# Altium integrated library Xilinx Virtex-II Pro FPGA.IntLib: 1045 symbols (part 3 of 8)
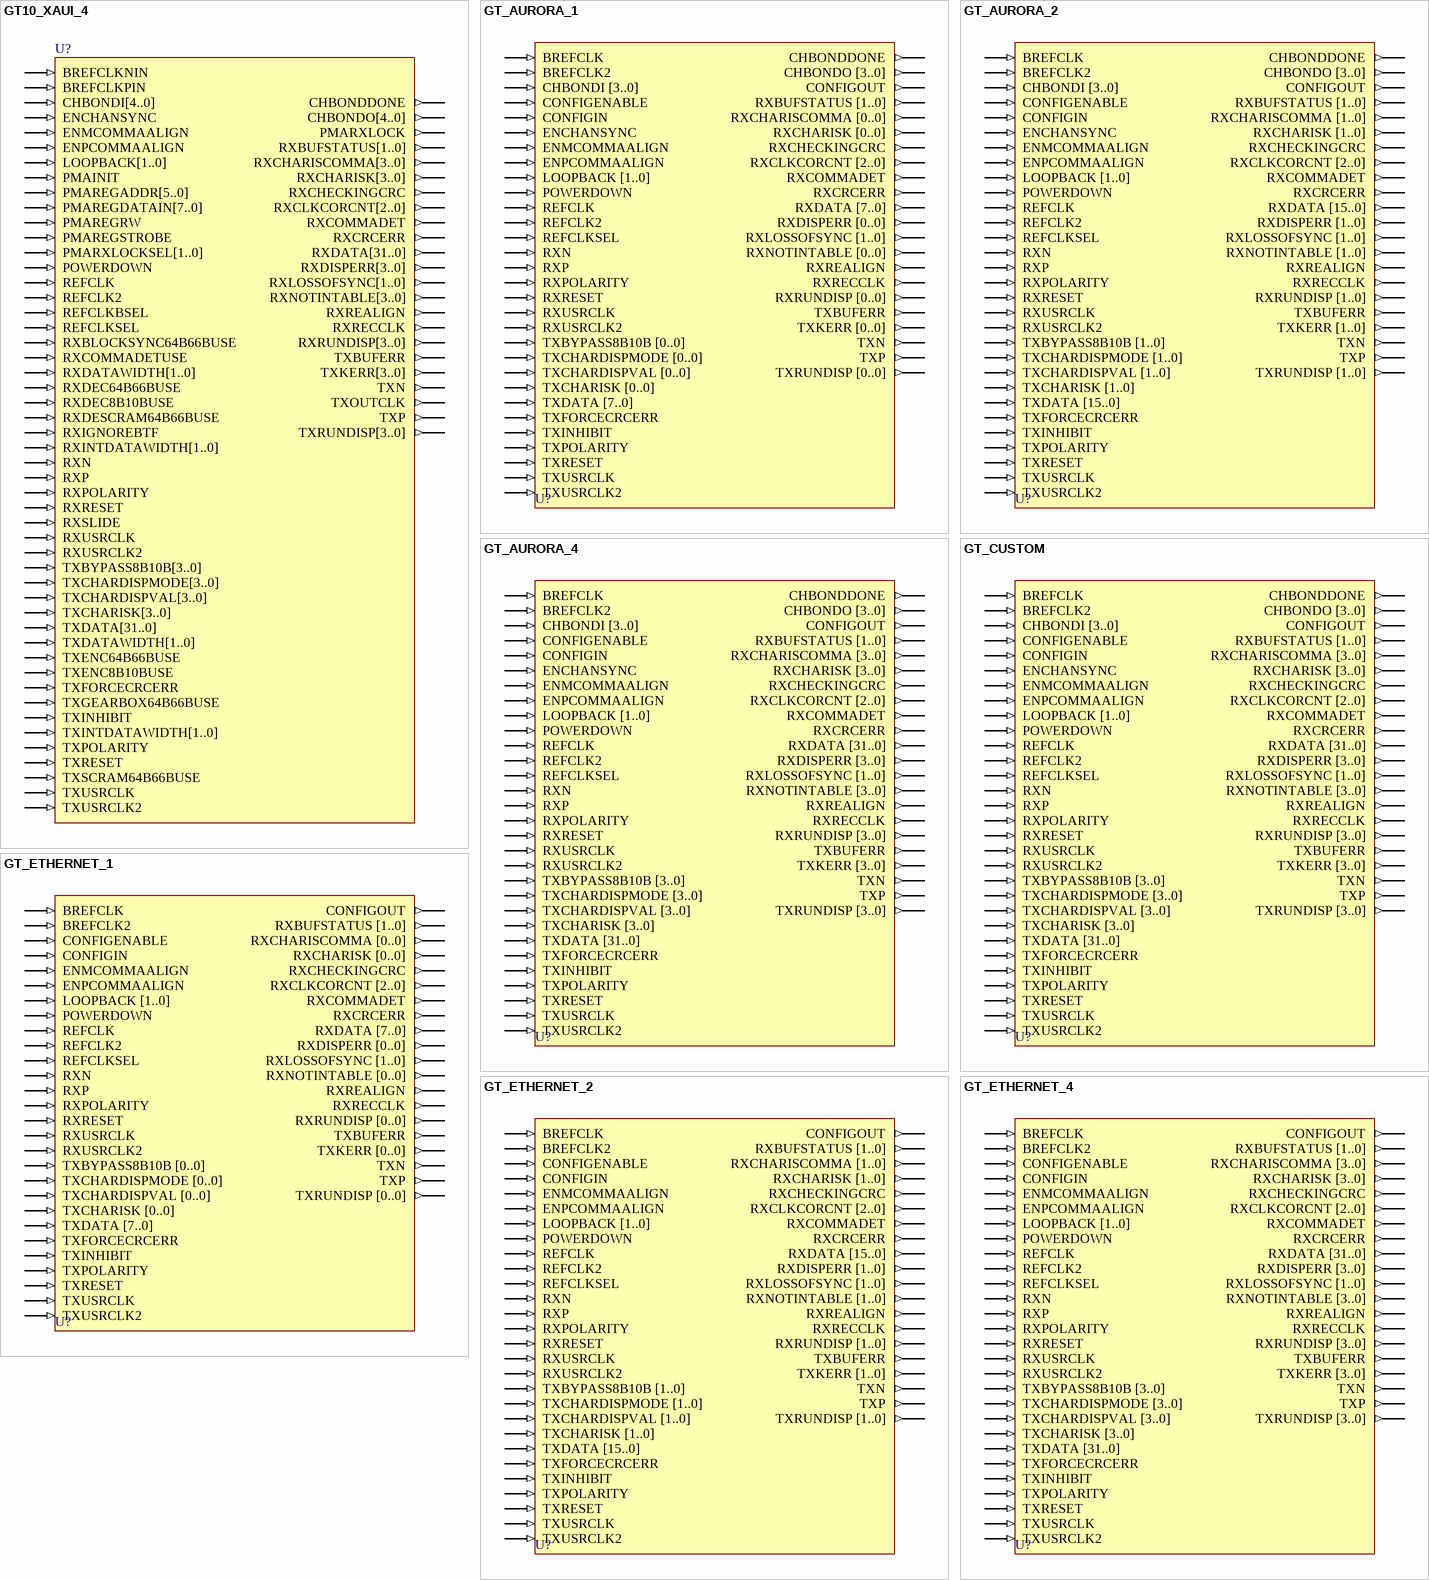
[diagram p37: symbols GT10_XAUI_4 to GT_ETHERNET_4]

## GT_ETHERNET_4
designator U?
Gigabit Transceiver for High-Speed I/O; FPGAVendor: Xilinx; Note: Supported for Virtex-II Pro but not for Virtex-II or Virtex-II Pro X.; Published: 15-Sep-2003; Publisher: Altium Limited; HelpURL: http://toolbox.xilinx.com/docsan/xilinx7/books/docs/lib/lib.pdf
pins: BREFCLK (in), BREFCLK2 (in), CONFIGENABLE (in), CONFIGIN (in), CONFIGOUT (out), ENMCOMMAALIGN (in), ENPCOMMAALIGN (in), LOOPBACK [1..0] (in), POWERDOWN (in), REFCLK (in), REFCLK2 (in), REFCLKSEL (in), RXBUFSTATUS [1..0] (out), RXCHARISCOMMA [3..0] (out), RXCHARISK [3..0] (out), RXCHECKINGCRC (out), RXCLKCORCNT [2..0] (out), RXCOMMADET (out), RXCRCERR (out), RXDATA [31..0] (out), RXDISPERR [3..0] (out), RXLOSSOFSYNC [1..0] (out), RXN (in), RXNOTINTABLE [3..0] (out), RXP (in), RXPOLARITY (in), RXREALIGN (out), RXRECCLK (out), RXRESET (in), RXRUNDISP [3..0] (out), RXUSRCLK (in), RXUSRCLK2 (in), TXBUFERR (out), TXBYPASS8B10B [3..0] (in), TXCHARDISPMODE [3..0] (in), TXCHARDISPVAL [3..0] (in), TXCHARISK [3..0] (in), TXDATA [31..0] (in), TXFORCECRCERR (in), TXINHIBIT (in), TXKERR [3..0] (out), TXN (out), TXP (out), TXPOLARITY (in), TXRESET (in), TXRUNDISP [3..0] (out), TXUSRCLK (in), TXUSRCLK2 (in)

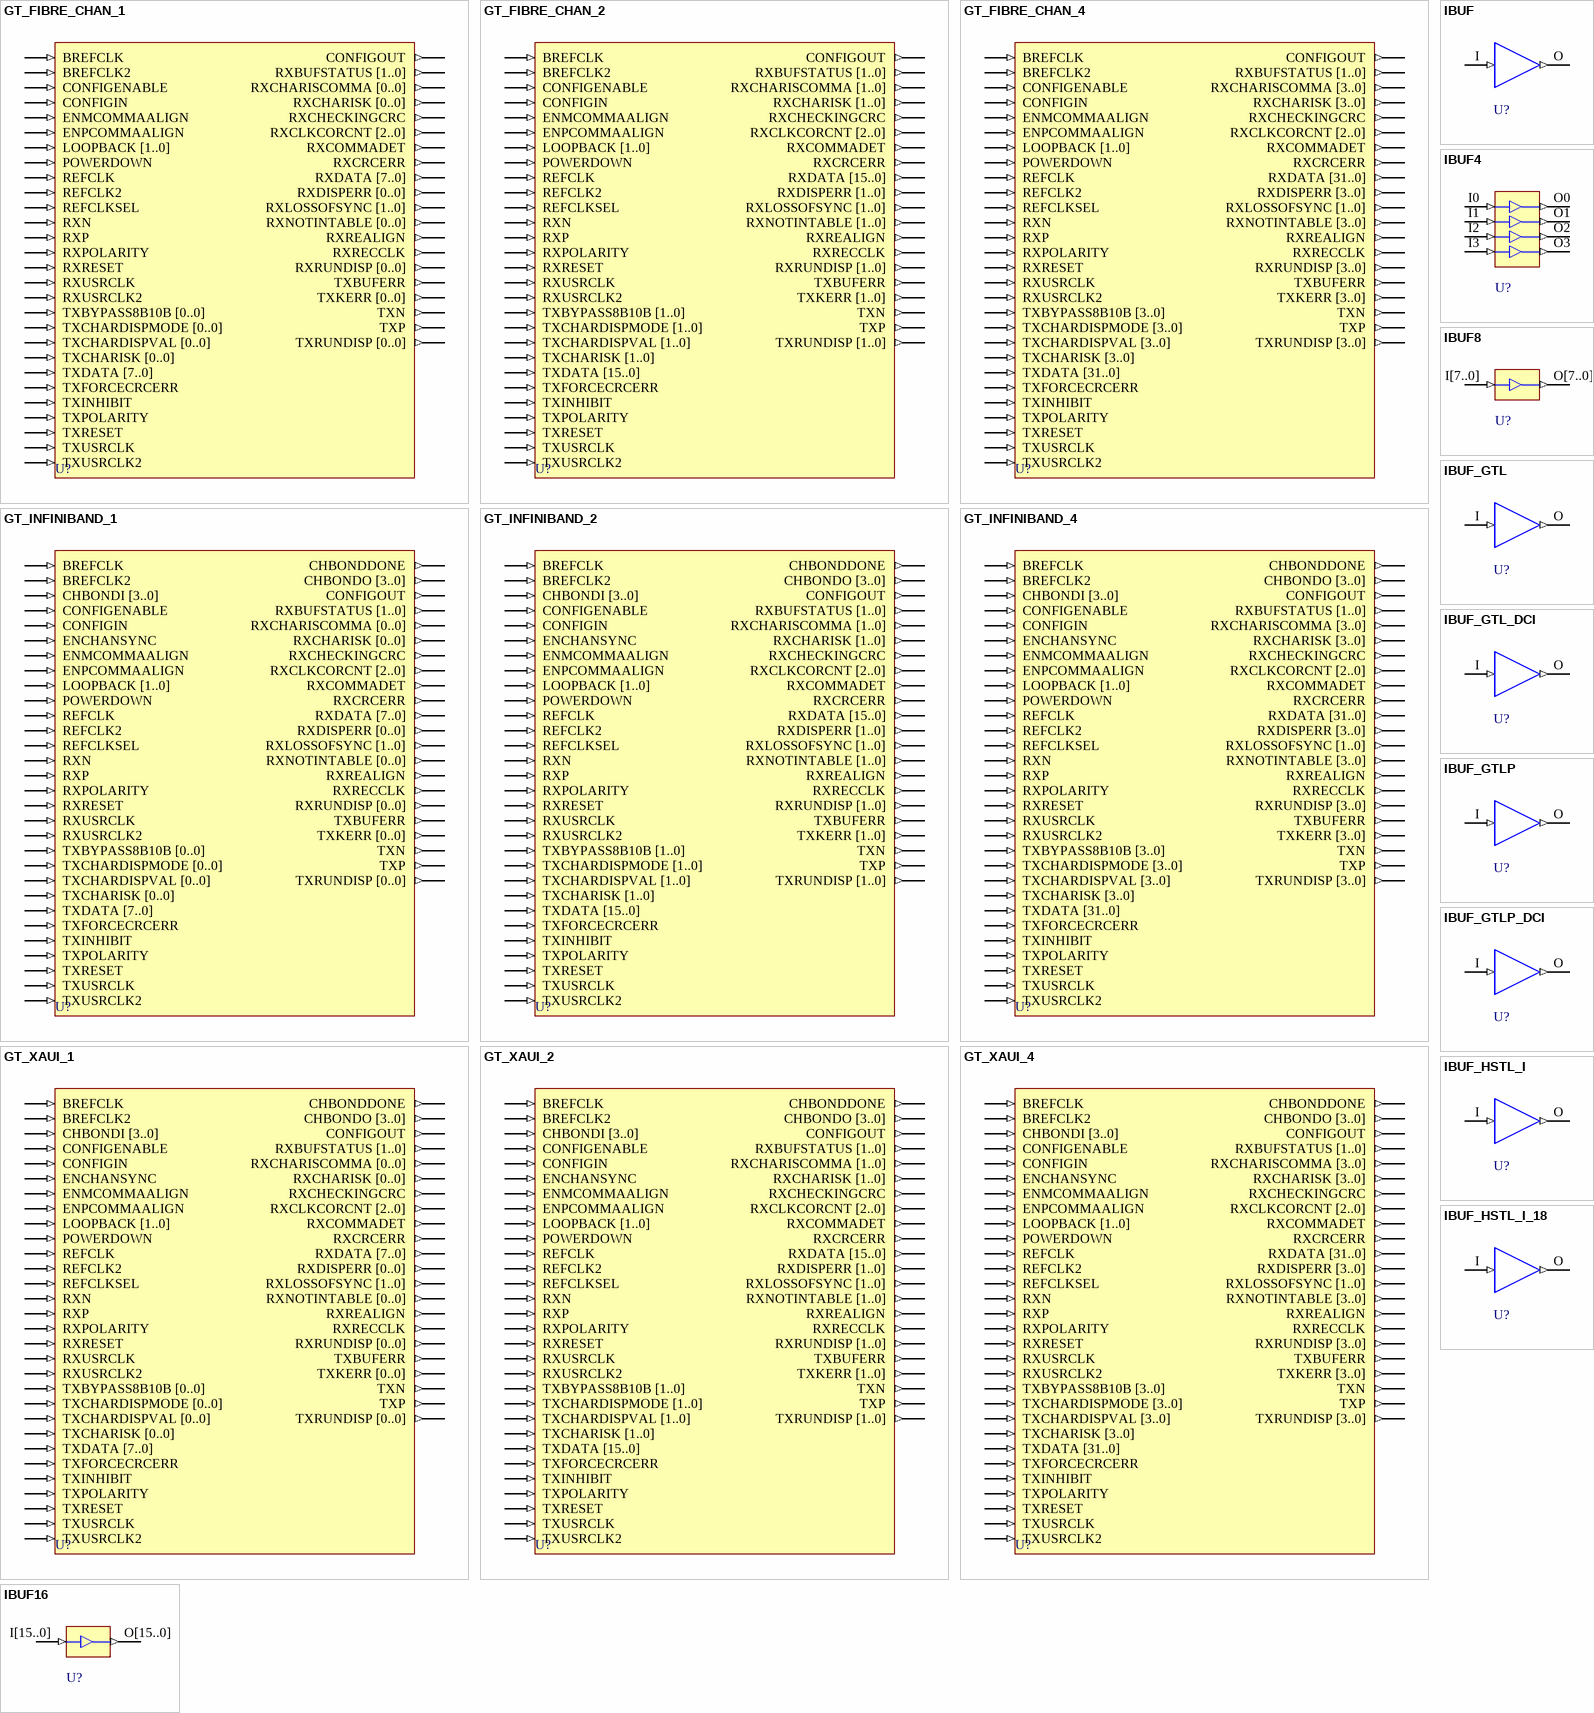
[diagram p13: symbols GT_FIBRE_CHAN_1 to IBUF_HSTL_I_18]

## GT_FIBRE_CHAN_1
designator U?
Gigabit Transceiver for High-Speed I/O; FPGAVendor: Xilinx; Note: Supported for Virtex-II Pro but not for Virtex-II or Virtex-II Pro X.; Published: 15-Sep-2003; Publisher: Altium Limited; HelpURL: http://toolbox.xilinx.com/docsan/xilinx7/books/docs/lib/lib.pdf
pins: BREFCLK (in), BREFCLK2 (in), CONFIGENABLE (in), CONFIGIN (in), CONFIGOUT (out), ENMCOMMAALIGN (in), ENPCOMMAALIGN (in), LOOPBACK [1..0] (in), POWERDOWN (in), REFCLK (in), REFCLK2 (in), REFCLKSEL (in), RXBUFSTATUS [1..0] (out), RXCHARISCOMMA [0..0] (out), RXCHARISK [0..0] (out), RXCHECKINGCRC (out), RXCLKCORCNT [2..0] (out), RXCOMMADET (out), RXCRCERR (out), RXDATA [7..0] (out), RXDISPERR [0..0] (out), RXLOSSOFSYNC [1..0] (out), RXN (in), RXNOTINTABLE [0..0] (out), RXP (in), RXPOLARITY (in), RXREALIGN (out), RXRECCLK (out), RXRESET (in), RXRUNDISP [0..0] (out), RXUSRCLK (in), RXUSRCLK2 (in), TXBUFERR (out), TXBYPASS8B10B [0..0] (in), TXCHARDISPMODE [0..0] (in), TXCHARDISPVAL [0..0] (in), TXCHARISK [0..0] (in), TXDATA [7..0] (in), TXFORCECRCERR (in), TXINHIBIT (in), TXKERR [0..0] (out), TXN (out), TXP (out), TXPOLARITY (in), TXRESET (in), TXRUNDISP [0..0] (out), TXUSRCLK (in), TXUSRCLK2 (in)

## GT_FIBRE_CHAN_2
designator U?
Gigabit Transceiver for High-Speed I/O; FPGAVendor: Xilinx; Note: Supported for Virtex-II Pro but not for Virtex-II or Virtex-II Pro X.; Published: 15-Sep-2003; Publisher: Altium Limited; HelpURL: http://toolbox.xilinx.com/docsan/xilinx7/books/docs/lib/lib.pdf
pins: BREFCLK (in), BREFCLK2 (in), CONFIGENABLE (in), CONFIGIN (in), CONFIGOUT (out), ENMCOMMAALIGN (in), ENPCOMMAALIGN (in), LOOPBACK [1..0] (in), POWERDOWN (in), REFCLK (in), REFCLK2 (in), REFCLKSEL (in), RXBUFSTATUS [1..0] (out), RXCHARISCOMMA [1..0] (out), RXCHARISK [1..0] (out), RXCHECKINGCRC (out), RXCLKCORCNT [2..0] (out), RXCOMMADET (out), RXCRCERR (out), RXDATA [15..0] (out), RXDISPERR [1..0] (out), RXLOSSOFSYNC [1..0] (out), RXN (in), RXNOTINTABLE [1..0] (out), RXP (in), RXPOLARITY (in), RXREALIGN (out), RXRECCLK (out), RXRESET (in), RXRUNDISP [1..0] (out), RXUSRCLK (in), RXUSRCLK2 (in), TXBUFERR (out), TXBYPASS8B10B [1..0] (in), TXCHARDISPMODE [1..0] (in), TXCHARDISPVAL [1..0] (in), TXCHARISK [1..0] (in), TXDATA [15..0] (in), TXFORCECRCERR (in), TXINHIBIT (in), TXKERR [1..0] (out), TXN (out), TXP (out), TXPOLARITY (in), TXRESET (in), TXRUNDISP [1..0] (out), TXUSRCLK (in), TXUSRCLK2 (in)

## GT_FIBRE_CHAN_4
designator U?
Gigabit Transceiver for High-Speed I/O; FPGAVendor: Xilinx; Note: Supported for Virtex-II Pro but not for Virtex-II or Virtex-II Pro X.; Published: 15-Sep-2003; Publisher: Altium Limited; HelpURL: http://toolbox.xilinx.com/docsan/xilinx7/books/docs/lib/lib.pdf
pins: BREFCLK (in), BREFCLK2 (in), CONFIGENABLE (in), CONFIGIN (in), CONFIGOUT (out), ENMCOMMAALIGN (in), ENPCOMMAALIGN (in), LOOPBACK [1..0] (in), POWERDOWN (in), REFCLK (in), REFCLK2 (in), REFCLKSEL (in), RXBUFSTATUS [1..0] (out), RXCHARISCOMMA [3..0] (out), RXCHARISK [3..0] (out), RXCHECKINGCRC (out), RXCLKCORCNT [2..0] (out), RXCOMMADET (out), RXCRCERR (out), RXDATA [31..0] (out), RXDISPERR [3..0] (out), RXLOSSOFSYNC [1..0] (out), RXN (in), RXNOTINTABLE [3..0] (out), RXP (in), RXPOLARITY (in), RXREALIGN (out), RXRECCLK (out), RXRESET (in), RXRUNDISP [3..0] (out), RXUSRCLK (in), RXUSRCLK2 (in), TXBUFERR (out), TXBYPASS8B10B [3..0] (in), TXCHARDISPMODE [3..0] (in), TXCHARDISPVAL [3..0] (in), TXCHARISK [3..0] (in), TXDATA [31..0] (in), TXFORCECRCERR (in), TXINHIBIT (in), TXKERR [3..0] (out), TXN (out), TXP (out), TXPOLARITY (in), TXRESET (in), TXRUNDISP [3..0] (out), TXUSRCLK (in), TXUSRCLK2 (in)

## GT_INFINIBAND_1
designator U?
Gigabit Transceiver for High-Speed I/O; FPGAVendor: Xilinx; Note: Supported for Virtex-II Pro but not for Virtex-II or Virtex-II Pro X.; Published: 15-Sep-2003; Publisher: Altium Limited; HelpURL: http://toolbox.xilinx.com/docsan/xilinx7/books/docs/lib/lib.pdf
pins: BREFCLK (in), BREFCLK2 (in), CHBONDDONE (out), CHBONDI [3..0] (in), CHBONDO [3..0] (out), CONFIGENABLE (in), CONFIGIN (in), CONFIGOUT (out), ENCHANSYNC (in), ENMCOMMAALIGN (in), ENPCOMMAALIGN (in), LOOPBACK [1..0] (in), POWERDOWN (in), REFCLK (in), REFCLK2 (in), REFCLKSEL (in), RXBUFSTATUS [1..0] (out), RXCHARISCOMMA [0..0] (out), RXCHARISK [0..0] (out), RXCHECKINGCRC (out), RXCLKCORCNT [2..0] (out), RXCOMMADET (out), RXCRCERR (out), RXDATA [7..0] (out), RXDISPERR [0..0] (out), RXLOSSOFSYNC [1..0] (out), RXN (in), RXNOTINTABLE [0..0] (out), RXP (in), RXPOLARITY (in), RXREALIGN (out), RXRECCLK (out), RXRESET (in), RXRUNDISP [0..0] (out), RXUSRCLK (in), RXUSRCLK2 (in), TXBUFERR (out), TXBYPASS8B10B [0..0] (in), TXCHARDISPMODE [0..0] (in), TXCHARDISPVAL [0..0] (in), TXCHARISK [0..0] (in), TXDATA [7..0] (in), TXFORCECRCERR (in), TXINHIBIT (in), TXKERR [0..0] (out), TXN (out), TXP (out), TXPOLARITY (in), TXRESET (in), TXRUNDISP [0..0] (out), TXUSRCLK (in), TXUSRCLK2 (in)

## GT_INFINIBAND_2
designator U?
Gigabit Transceiver for High-Speed I/O; FPGAVendor: Xilinx; Note: Supported for Virtex-II Pro but not for Virtex-II or Virtex-II Pro X.; Published: 15-Sep-2003; Publisher: Altium Limited; HelpURL: http://toolbox.xilinx.com/docsan/xilinx7/books/docs/lib/lib.pdf
pins: BREFCLK (in), BREFCLK2 (in), CHBONDDONE (out), CHBONDI [3..0] (in), CHBONDO [3..0] (out), CONFIGENABLE (in), CONFIGIN (in), CONFIGOUT (out), ENCHANSYNC (in), ENMCOMMAALIGN (in), ENPCOMMAALIGN (in), LOOPBACK [1..0] (in), POWERDOWN (in), REFCLK (in), REFCLK2 (in), REFCLKSEL (in), RXBUFSTATUS [1..0] (out), RXCHARISCOMMA [1..0] (out), RXCHARISK [1..0] (out), RXCHECKINGCRC (out), RXCLKCORCNT [2..0] (out), RXCOMMADET (out), RXCRCERR (out), RXDATA [15..0] (out), RXDISPERR [1..0] (out), RXLOSSOFSYNC [1..0] (out), RXN (in), RXNOTINTABLE [1..0] (out), RXP (in), RXPOLARITY (in), RXREALIGN (out), RXRECCLK (out), RXRESET (in), RXRUNDISP [1..0] (out), RXUSRCLK (in), RXUSRCLK2 (in), TXBUFERR (out), TXBYPASS8B10B [1..0] (in), TXCHARDISPMODE [1..0] (in), TXCHARDISPVAL [1..0] (in), TXCHARISK [1..0] (in), TXDATA [15..0] (in), TXFORCECRCERR (in), TXINHIBIT (in), TXKERR [1..0] (out), TXN (out), TXP (out), TXPOLARITY (in), TXRESET (in), TXRUNDISP [1..0] (out), TXUSRCLK (in), TXUSRCLK2 (in)

## GT_INFINIBAND_4
designator U?
Gigabit Transceiver for High-Speed I/O; FPGAVendor: Xilinx; Note: Supported for Virtex-II Pro but not for Virtex-II or Virtex-II Pro X.; Published: 15-Sep-2003; Publisher: Altium Limited; HelpURL: http://toolbox.xilinx.com/docsan/xilinx7/books/docs/lib/lib.pdf
pins: BREFCLK (in), BREFCLK2 (in), CHBONDDONE (out), CHBONDI [3..0] (in), CHBONDO [3..0] (out), CONFIGENABLE (in), CONFIGIN (in), CONFIGOUT (out), ENCHANSYNC (in), ENMCOMMAALIGN (in), ENPCOMMAALIGN (in), LOOPBACK [1..0] (in), POWERDOWN (in), REFCLK (in), REFCLK2 (in), REFCLKSEL (in), RXBUFSTATUS [1..0] (out), RXCHARISCOMMA [3..0] (out), RXCHARISK [3..0] (out), RXCHECKINGCRC (out), RXCLKCORCNT [2..0] (out), RXCOMMADET (out), RXCRCERR (out), RXDATA [31..0] (out), RXDISPERR [3..0] (out), RXLOSSOFSYNC [1..0] (out), RXN (in), RXNOTINTABLE [3..0] (out), RXP (in), RXPOLARITY (in), RXREALIGN (out), RXRECCLK (out), RXRESET (in), RXRUNDISP [3..0] (out), RXUSRCLK (in), RXUSRCLK2 (in), TXBUFERR (out), TXBYPASS8B10B [3..0] (in), TXCHARDISPMODE [3..0] (in), TXCHARDISPVAL [3..0] (in), TXCHARISK [3..0] (in), TXDATA [31..0] (in), TXFORCECRCERR (in), TXINHIBIT (in), TXKERR [3..0] (out), TXN (out), TXP (out), TXPOLARITY (in), TXRESET (in), TXRUNDISP [3..0] (out), TXUSRCLK (in), TXUSRCLK2 (in)

## GT_XAUI_1
designator U?
Gigabit Transceiver for High-Speed I/O; FPGAVendor: Xilinx; Note: Supported for Virtex-II Pro but not for Virtex-II or Virtex-II Pro X.; Published: 15-Sep-2003; Publisher: Altium Limited; HelpURL: http://toolbox.xilinx.com/docsan/xilinx7/books/docs/lib/lib.pdf
pins: BREFCLK (in), BREFCLK2 (in), CHBONDDONE (out), CHBONDI [3..0] (in), CHBONDO [3..0] (out), CONFIGENABLE (in), CONFIGIN (in), CONFIGOUT (out), ENCHANSYNC (in), ENMCOMMAALIGN (in), ENPCOMMAALIGN (in), LOOPBACK [1..0] (in), POWERDOWN (in), REFCLK (in), REFCLK2 (in), REFCLKSEL (in), RXBUFSTATUS [1..0] (out), RXCHARISCOMMA [0..0] (out), RXCHARISK [0..0] (out), RXCHECKINGCRC (out), RXCLKCORCNT [2..0] (out), RXCOMMADET (out), RXCRCERR (out), RXDATA [7..0] (out), RXDISPERR [0..0] (out), RXLOSSOFSYNC [1..0] (out), RXN (in), RXNOTINTABLE [0..0] (out), RXP (in), RXPOLARITY (in), RXREALIGN (out), RXRECCLK (out), RXRESET (in), RXRUNDISP [0..0] (out), RXUSRCLK (in), RXUSRCLK2 (in), TXBUFERR (out), TXBYPASS8B10B [0..0] (in), TXCHARDISPMODE [0..0] (in), TXCHARDISPVAL [0..0] (in), TXCHARISK [0..0] (in), TXDATA [7..0] (in), TXFORCECRCERR (in), TXINHIBIT (in), TXKERR [0..0] (out), TXN (out), TXP (out), TXPOLARITY (in), TXRESET (in), TXRUNDISP [0..0] (out), TXUSRCLK (in), TXUSRCLK2 (in)

## GT_XAUI_2
designator U?
Gigabit Transceiver for High-Speed I/O; FPGAVendor: Xilinx; Note: Supported for Virtex-II Pro but not for Virtex-II or Virtex-II Pro X.; Published: 15-Sep-2003; Publisher: Altium Limited; HelpURL: http://toolbox.xilinx.com/docsan/xilinx7/books/docs/lib/lib.pdf
pins: BREFCLK (in), BREFCLK2 (in), CHBONDDONE (out), CHBONDI [3..0] (in), CHBONDO [3..0] (out), CONFIGENABLE (in), CONFIGIN (in), CONFIGOUT (out), ENCHANSYNC (in), ENMCOMMAALIGN (in), ENPCOMMAALIGN (in), LOOPBACK [1..0] (in), POWERDOWN (in), REFCLK (in), REFCLK2 (in), REFCLKSEL (in), RXBUFSTATUS [1..0] (out), RXCHARISCOMMA [1..0] (out), RXCHARISK [1..0] (out), RXCHECKINGCRC (out), RXCLKCORCNT [2..0] (out), RXCOMMADET (out), RXCRCERR (out), RXDATA [15..0] (out), RXDISPERR [1..0] (out), RXLOSSOFSYNC [1..0] (out), RXN (in), RXNOTINTABLE [1..0] (out), RXP (in), RXPOLARITY (in), RXREALIGN (out), RXRECCLK (out), RXRESET (in), RXRUNDISP [1..0] (out), RXUSRCLK (in), RXUSRCLK2 (in), TXBUFERR (out), TXBYPASS8B10B [1..0] (in), TXCHARDISPMODE [1..0] (in), TXCHARDISPVAL [1..0] (in), TXCHARISK [1..0] (in), TXDATA [15..0] (in), TXFORCECRCERR (in), TXINHIBIT (in), TXKERR [1..0] (out), TXN (out), TXP (out), TXPOLARITY (in), TXRESET (in), TXRUNDISP [1..0] (out), TXUSRCLK (in), TXUSRCLK2 (in)

## GT_XAUI_4
designator U?
Gigabit Transceiver for High-Speed I/O; FPGAVendor: Xilinx; Note: Supported for Virtex-II Pro but not for Virtex-II or Virtex-II Pro X.; Published: 15-Sep-2003; Publisher: Altium Limited; HelpURL: http://toolbox.xilinx.com/docsan/xilinx7/books/docs/lib/lib.pdf
pins: BREFCLK (in), BREFCLK2 (in), CHBONDDONE (out), CHBONDI [3..0] (in), CHBONDO [3..0] (out), CONFIGENABLE (in), CONFIGIN (in), CONFIGOUT (out), ENCHANSYNC (in), ENMCOMMAALIGN (in), ENPCOMMAALIGN (in), LOOPBACK [1..0] (in), POWERDOWN (in), REFCLK (in), REFCLK2 (in), REFCLKSEL (in), RXBUFSTATUS [1..0] (out), RXCHARISCOMMA [3..0] (out), RXCHARISK [3..0] (out), RXCHECKINGCRC (out), RXCLKCORCNT [2..0] (out), RXCOMMADET (out), RXCRCERR (out), RXDATA [31..0] (out), RXDISPERR [3..0] (out), RXLOSSOFSYNC [1..0] (out), RXN (in), RXNOTINTABLE [3..0] (out), RXP (in), RXPOLARITY (in), RXREALIGN (out), RXRECCLK (out), RXRESET (in), RXRUNDISP [3..0] (out), RXUSRCLK (in), RXUSRCLK2 (in), TXBUFERR (out), TXBYPASS8B10B [3..0] (in), TXCHARDISPMODE [3..0] (in), TXCHARDISPVAL [3..0] (in), TXCHARISK [3..0] (in), TXDATA [31..0] (in), TXFORCECRCERR (in), TXINHIBIT (in), TXKERR [3..0] (out), TXN (out), TXP (out), TXPOLARITY (in), TXRESET (in), TXRUNDISP [3..0] (out), TXUSRCLK (in), TXUSRCLK2 (in)

## IBUF
designator U?
Single-Input Buffer; FPGAVendor: Xilinx; Published: 15-Sep-2003; Publisher: Altium Limited; HelpURL: http://toolbox.xilinx.com/docsan/xilinx7/books/docs/lib/lib.pdf
pins: I (in), O (out)

## IBUF4
designator U?
Multiple-Input Buffer; FPGAVendor: Xilinx; Published: 15-Sep-2003; Publisher: Altium Limited; HelpURL: http://toolbox.xilinx.com/docsan/xilinx7/books/docs/lib/lib.pdf
pins: I0 (in), I1 (in), I2 (in), I3 (in), O0 (out), O1 (out), O2 (out), O3 (out)

## IBUF8
designator U?
Multiple-Input Buffer; FPGAVendor: Xilinx; Published: 15-Sep-2003; Publisher: Altium Limited; HelpURL: http://toolbox.xilinx.com/docsan/xilinx7/books/docs/lib/lib.pdf
pins: I[7..0] (in), O[7..0] (out)

## IBUF16
designator U?
Multiple-Input Buffer; FPGAVendor: Xilinx; Published: 15-Sep-2003; Publisher: Altium Limited; HelpURL: http://toolbox.xilinx.com/docsan/xilinx7/books/docs/lib/lib.pdf
pins: I[15..0] (in), O[15..0] (out)

## IBUF_GTL
designator U?
Single Input Buffer using the GTL standard; FPGAVendor: Xilinx; Published: 15-Sep-2003; Publisher: Altium Limited; HelpURL: http://toolbox.xilinx.com/docsan/xilinx7/books/docs/lib/lib.pdf
pins: I (in), O (out)

## IBUF_GTL_DCI
designator U?
Single Input Buffer with Gunning transceiver logic interface with on-chip Digital Controlled Impedance; FPGAVendor: Xilinx; Published: 15-Sep-2003; Publisher: Altium Limited; HelpURL: http://toolbox.xilinx.com/docsan/xilinx7/books/docs/lib/lib.pdf
pins: I (in), O (out)

## IBUF_GTLP
designator U?
Single Input Buffer using the GTL Plus standard; FPGAVendor: Xilinx; Published: 15-Sep-2003; Publisher: Altium Limited; HelpURL: http://toolbox.xilinx.com/docsan/xilinx7/books/docs/lib/lib.pdf
pins: I (in), O (out)

## IBUF_GTLP_DCI
designator U?
Single Input Buffer with Gunning transceiver logic interface with on-chip Digital Controlled Impedance; FPGAVendor: Xilinx; Published: 15-Sep-2003; Publisher: Altium Limited; HelpURL: http://toolbox.xilinx.com/docsan/xilinx7/books/docs/lib/lib.pdf
pins: I (in), O (out)

## IBUF_HSTL_I
designator U?
Single Input Buffer using the HSTL_I standard; FPGAVendor: Xilinx; Published: 15-Sep-2003; Publisher: Altium Limited; HelpURL: http://toolbox.xilinx.com/docsan/xilinx7/books/docs/lib/lib.pdf
pins: I (in), O (out)

## IBUF_HSTL_I_18
designator U?
Single Input Buffer using the HSTL_I_18 Standard; FPGAVendor: Xilinx; Published: 15-Sep-2003; Publisher: Altium Limited; HelpURL: http://toolbox.xilinx.com/docsan/xilinx7/books/docs/lib/lib.pdf
pins: I (in), O (out)

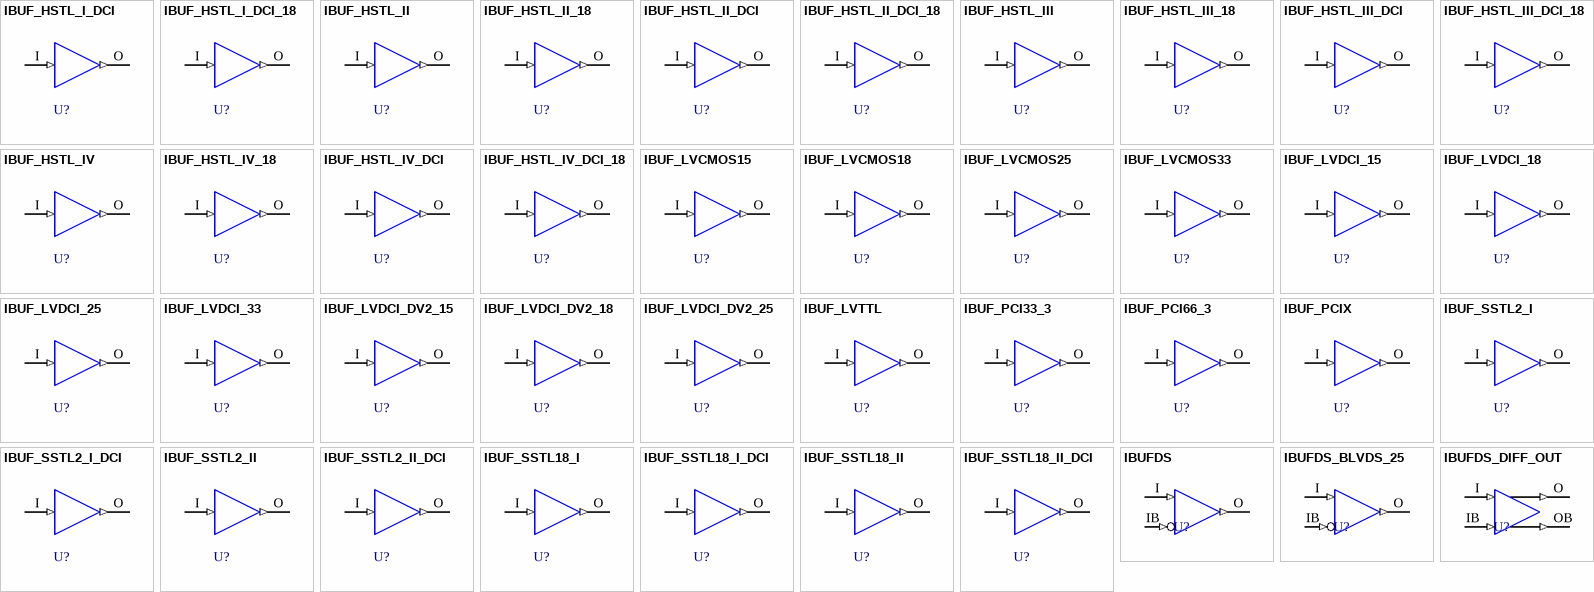
[diagram p14: symbols IBUF_HSTL_I_DCI to IBUFDS_DIFF_OUT]

## IBUF_HSTL_I_DCI
designator U?
Single Input Buffer with High Speed transceiver logic interface with on-chip Digital Controlled Impedance; FPGAVendor: Xilinx; Published: 15-Sep-2003; Publisher: Altium Limited; HelpURL: http://toolbox.xilinx.com/docsan/xilinx7/books/docs/lib/lib.pdf
pins: I (in), O (out)

## IBUF_HSTL_I_DCI_18
designator U?
Single Input Buffer using the HSTL_I_DCI_18 Standard; FPGAVendor: Xilinx; Published: 15-Sep-2003; Publisher: Altium Limited; HelpURL: http://toolbox.xilinx.com/docsan/xilinx7/books/docs/lib/lib.pdf
pins: I (in), O (out)

## IBUF_HSTL_II
designator U?
Single Input Buffer with High Speed transceiver logic; FPGAVendor: Xilinx; Published: 15-Sep-2003; Publisher: Altium Limited; HelpURL: http://toolbox.xilinx.com/docsan/xilinx7/books/docs/lib/lib.pdf
pins: I (in), O (out)

## IBUF_HSTL_II_18
designator U?
Single Input Buffer using the HSTL_II_18 Standard; FPGAVendor: Xilinx; Published: 15-Sep-2003; Publisher: Altium Limited; HelpURL: http://toolbox.xilinx.com/docsan/xilinx7/books/docs/lib/lib.pdf
pins: I (in), O (out)

## IBUF_HSTL_II_DCI
designator U?
Single Input Buffer with High Speed transceiver logic interface with on-chip Digital Controlled Impedance; FPGAVendor: Xilinx; Published: 15-Sep-2003; Publisher: Altium Limited; HelpURL: http://toolbox.xilinx.com/docsan/xilinx7/books/docs/lib/lib.pdf
pins: I (in), O (out)

## IBUF_HSTL_II_DCI_18
designator U?
Single Input Buffer using the HSTL_II_DCI_18 Standard; FPGAVendor: Xilinx; Published: 15-Sep-2003; Publisher: Altium Limited; HelpURL: http://toolbox.xilinx.com/docsan/xilinx7/books/docs/lib/lib.pdf
pins: I (in), O (out)

## IBUF_HSTL_III
designator U?
Single Input Buffer using the HSTL_III standard; FPGAVendor: Xilinx; Published: 15-Sep-2003; Publisher: Altium Limited; HelpURL: http://toolbox.xilinx.com/docsan/xilinx7/books/docs/lib/lib.pdf
pins: I (in), O (out)

## IBUF_HSTL_III_18
designator U?
Single Input Buffer using the HSTL_III_18 Standard; FPGAVendor: Xilinx; Published: 15-Sep-2003; Publisher: Altium Limited; HelpURL: http://toolbox.xilinx.com/docsan/xilinx7/books/docs/lib/lib.pdf
pins: I (in), O (out)

## IBUF_HSTL_III_DCI
designator U?
Single Input Buffer with High Speed transceiver logic interface with on-chip Digital Controlled Impedance; FPGAVendor: Xilinx; Published: 15-Sep-2003; Publisher: Altium Limited; HelpURL: http://toolbox.xilinx.com/docsan/xilinx7/books/docs/lib/lib.pdf
pins: I (in), O (out)

## IBUF_HSTL_III_DCI_18
designator U?
Single Input Buffer using the HSTL_III_DCI_18 Standard; FPGAVendor: Xilinx; Published: 15-Sep-2003; Publisher: Altium Limited; HelpURL: http://toolbox.xilinx.com/docsan/xilinx7/books/docs/lib/lib.pdf
pins: I (in), O (out)

## IBUF_HSTL_IV
designator U?
Single Input Buffer using the HSTL_IV standard; FPGAVendor: Xilinx; Published: 15-Sep-2003; Publisher: Altium Limited; HelpURL: http://toolbox.xilinx.com/docsan/xilinx7/books/docs/lib/lib.pdf
pins: I (in), O (out)

## IBUF_HSTL_IV_18
designator U?
Single Input Buffer using the HSTL_IV_18 Standard; FPGAVendor: Xilinx; Published: 15-Sep-2003; Publisher: Altium Limited; HelpURL: http://toolbox.xilinx.com/docsan/xilinx7/books/docs/lib/lib.pdf
pins: I (in), O (out)

## IBUF_HSTL_IV_DCI
designator U?
Single Input Buffer with High Speed transceiver logic interface with on-chip Digital Controlled Impedance; FPGAVendor: Xilinx; Published: 15-Sep-2003; Publisher: Altium Limited; HelpURL: http://toolbox.xilinx.com/docsan/xilinx7/books/docs/lib/lib.pdf
pins: I (in), O (out)

## IBUF_HSTL_IV_DCI_18
designator U?
Single Input Buffer using the HSTL_IV_DCI_18 Standard; FPGAVendor: Xilinx; Published: 15-Sep-2003; Publisher: Altium Limited; HelpURL: http://toolbox.xilinx.com/docsan/xilinx7/books/docs/lib/lib.pdf
pins: I (in), O (out)

## IBUF_LVCMOS15
designator U?
Single Input Buffer using the LVCMOS15 Standard; FPGAVendor: Xilinx; Published: 15-Sep-2003; Publisher: Altium Limited; HelpURL: http://toolbox.xilinx.com/docsan/xilinx7/books/docs/lib/lib.pdf
pins: I (in), O (out)

## IBUF_LVCMOS18
designator U?
Single Input Buffer (LVCMOS) with input VCCO = 1.8 and output VCCO = 1.8; FPGAVendor: Xilinx; Published: 15-Sep-2003; Publisher: Altium Limited; HelpURL: http://toolbox.xilinx.com/docsan/xilinx7/books/docs/lib/lib.pdf
pins: I (in), O (out)

## IBUF_LVCMOS25
designator U?
Single Input Buffer using the LVCMOS25 Standard; FPGAVendor: Xilinx; Published: 15-Sep-2003; Publisher: Altium Limited; HelpURL: http://toolbox.xilinx.com/docsan/xilinx7/books/docs/lib/lib.pdf
pins: I (in), O (out)

## IBUF_LVCMOS33
designator U?
Single Input Buffer using the LVCMOS33 Standard; FPGAVendor: Xilinx; Published: 15-Sep-2003; Publisher: Altium Limited; HelpURL: http://toolbox.xilinx.com/docsan/xilinx7/books/docs/lib/lib.pdf
pins: I (in), O (out)

## IBUF_LVDCI_15
designator U?
Single Input Buffer (LVCMOS) with on-chip Digital Controlled Impedance, (Output VCCO = 1.5, Input VCCO = 1.5); FPGAVendor: Xilinx; Published: 15-Sep-2003; Publisher: Altium Limited; HelpURL: http://toolbox.xilinx.com/docsan/xilinx7/books/docs/lib/lib.pdf
pins: I (in), O (out)

## IBUF_LVDCI_18
designator U?
Single Input Buffer (LVCMOS) with on-chip Digital Controlled Impedance, (Output VCCO = 1.8, Input VCCO = 1.8); FPGAVendor: Xilinx; Published: 15-Sep-2003; Publisher: Altium Limited; HelpURL: http://toolbox.xilinx.com/docsan/xilinx7/books/docs/lib/lib.pdf
pins: I (in), O (out)

## IBUF_LVDCI_25
designator U?
Single Input Buffer (LVCMOS) with on-chip Digital Controlled Impedance, (Output VCCO = 2.5, Input VCCO = 2.5); FPGAVendor: Xilinx; Published: 15-Sep-2003; Publisher: Altium Limited; HelpURL: http://toolbox.xilinx.com/docsan/xilinx7/books/docs/lib/lib.pdf
pins: I (in), O (out)

## IBUF_LVDCI_33
designator U?
Single Input Buffer (LVCMOS) with on-chip Digital Controlled Impedance, (Output VCCO = 3.3, Input VCCO = 3.3); FPGAVendor: Xilinx; Published: 15-Sep-2003; Publisher: Altium Limited; HelpURL: http://toolbox.xilinx.com/docsan/xilinx7/books/docs/lib/lib.pdf
pins: I (in), O (out)

## IBUF_LVDCI_DV2_15
designator U?
Single Input Buffer (LVCMOS) with output VCCO = 1.5, and with on-chip Digital Controlled Impedance; FPGAVendor: Xilinx; Published: 15-Sep-2003; Publisher: Altium Limited; HelpURL: http://toolbox.xilinx.com/docsan/xilinx7/books/docs/lib/lib.pdf
pins: I (in), O (out)

## IBUF_LVDCI_DV2_18
designator U?
Single Input Buffer (LVCMOS) with output VCCO = 1.8, and with on-chip Digital Controlled Impedance; FPGAVendor: Xilinx; Published: 15-Sep-2003; Publisher: Altium Limited; HelpURL: http://toolbox.xilinx.com/docsan/xilinx7/books/docs/lib/lib.pdf
pins: I (in), O (out)

## IBUF_LVDCI_DV2_25
designator U?
Single Input Buffer (LVCMOS) with output VCCO = 2.5, and with on-chip Digital Controlled Impedance; FPGAVendor: Xilinx; Published: 15-Sep-2003; Publisher: Altium Limited; HelpURL: http://toolbox.xilinx.com/docsan/xilinx7/books/docs/lib/lib.pdf
pins: I (in), O (out)

## IBUF_LVTTL
designator U?
Single Input Buffer with Low voltage transistor-transistor logic with input VCCO = 3.3 and output VCCO = 3.3; FPGAVendor: Xilinx; Published: 15-Sep-2003; Publisher: Altium Limited; HelpURL: http://toolbox.xilinx.com/docsan/xilinx7/books/docs/lib/lib.pdf
pins: I (in), O (out)

## IBUF_PCI33_3
designator U?
Single Input Buffer using the PCI33_3 standard; FPGAVendor: Xilinx; Published: 15-Sep-2003; Publisher: Altium Limited; HelpURL: http://toolbox.xilinx.com/docsan/xilinx7/books/docs/lib/lib.pdf
pins: I (in), O (out)

## IBUF_PCI66_3
designator U?
Single Input Buffer using the PCI66_3 standard; FPGAVendor: Xilinx; Published: 15-Sep-2003; Publisher: Altium Limited; HelpURL: http://toolbox.xilinx.com/docsan/xilinx7/books/docs/lib/lib.pdf
pins: I (in), O (out)

## IBUF_PCIX
designator U?
Single Input Buffer with Peripheral component interface.  Input VCCO = 3.3 and output VCCO = 3.3; FPGAVendor: Xilinx; Published: 15-Sep-2003; Publisher: Altium Limited; HelpURL: http://toolbox.xilinx.com/docsan/xilinx7/books/docs/lib/lib.pdf
pins: I (in), O (out)

## IBUF_SSTL2_I
designator U?
Single Input Buffer using the SSTL2_I standard; FPGAVendor: Xilinx; Published: 15-Sep-2003; Publisher: Altium Limited; HelpURL: http://toolbox.xilinx.com/docsan/xilinx7/books/docs/lib/lib.pdf
pins: I (in), O (out)

## IBUF_SSTL2_I_DCI
designator U?
Single Input Buffer with Stub-series terminated logic interface for SDRAM with on-chip Digital Controlled Impedance Input VCCO = 2.5 and output VCCO = 2.5.  VREF = 1.25; FPGAVendor: Xilinx; Published: 15-Sep-2003; Publisher: Altium Limited; HelpURL: http://toolbox.xilinx.com/docsan/xilinx7/books/docs/lib/lib.pdf
pins: I (in), O (out)

## IBUF_SSTL2_II
designator U?
Single Input Buffer using the SSTL2_II standard; FPGAVendor: Xilinx; Published: 15-Sep-2003; Publisher: Altium Limited; HelpURL: http://toolbox.xilinx.com/docsan/xilinx7/books/docs/lib/lib.pdf
pins: I (in), O (out)

## IBUF_SSTL2_II_DCI
designator U?
Single Input Buffer with Stub-series terminated logic interface for SDRAM with on-chip Digital Controlled Impedance Input VCCO = 2.5 and output VCCO = 2.5 and  VREF = 1.25; FPGAVendor: Xilinx; Published: 15-Sep-2003; Publisher: Altium Limited; HelpURL: http://toolbox.xilinx.com/docsan/xilinx7/books/docs/lib/lib.pdf
pins: I (in), O (out)

## IBUF_SSTL18_I
designator U?
Single Input Buffer using the SSTL18_I standard; FPGAVendor: Xilinx; Published: 15-Sep-2003; Publisher: Altium Limited; HelpURL: http://toolbox.xilinx.com/docsan/xilinx7/books/docs/lib/lib.pdf
pins: I (in), O (out)

## IBUF_SSTL18_I_DCI
designator U?
Single Input Buffer using the SSTL18_I_DCI standard; FPGAVendor: Xilinx; Published: 15-Sep-2003; Publisher: Altium Limited; HelpURL: http://toolbox.xilinx.com/docsan/xilinx7/books/docs/lib/lib.pdf
pins: I (in), O (out)

## IBUF_SSTL18_II
designator U?
Single Input Buffer using the SSTL18_II standard; FPGAVendor: Xilinx; Published: 15-Sep-2003; Publisher: Altium Limited; HelpURL: http://toolbox.xilinx.com/docsan/xilinx7/books/docs/lib/lib.pdf
pins: I (in), O (out)

## IBUF_SSTL18_II_DCI
designator U?
Single Input Buffer using the SSTL18_II_DCI standard; FPGAVendor: Xilinx; Published: 15-Sep-2003; Publisher: Altium Limited; HelpURL: http://toolbox.xilinx.com/docsan/xilinx7/books/docs/lib/lib.pdf
pins: I (in), O (out)

## IBUFDS
designator U?
Differential Signaling Input Buffer with Selectable I/O Interface; FPGAVendor: Xilinx; Published: 15-Sep-2003; Publisher: Altium Limited; HelpURL: http://toolbox.xilinx.com/docsan/xilinx7/books/docs/lib/lib.pdf
pins: I (in), IB (in), O (out)

## IBUFDS_BLVDS_25
designator U?
Differential Signaling Input Buffer with Low Voltage Differential Signaling - input VCCO = 2.5; FPGAVendor: Xilinx; Published: 15-Sep-2003; Publisher: Altium Limited; HelpURL: http://toolbox.xilinx.com/docsan/xilinx7/books/docs/lib/lib.pdf
pins: I (in), IB (in), O (out)

## IBUFDS_DIFF_OUT
designator U?
Differential I/O Input Buffer with Differential Outputs; FPGAVendor: Xilinx; Published: 20-May-2005; Publisher: Altium Limited; HelpURL: http://toolbox.xilinx.com/docsan/xilinx7/books/docs/lib/lib.pdf
pins: I (in), IB (in), O (out), OB (out)

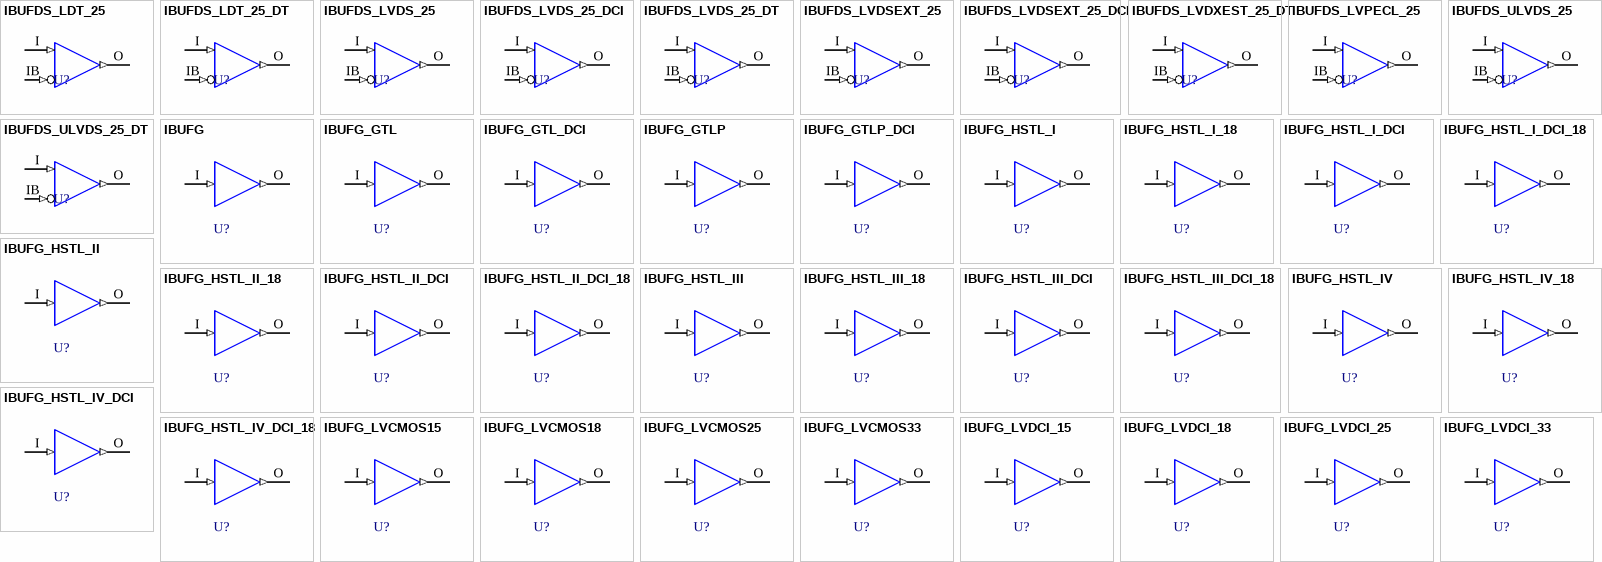
[diagram p15: symbols IBUFDS_LDT_25 to IBUFG_LVDCI_33]

## IBUFDS_LDT_25
designator U?
Differential Signaling Input Buffer with Lightning Data Transport - input VCCO = 2.5; FPGAVendor: Xilinx; Published: 15-Sep-2003; Publisher: Altium Limited; HelpURL: http://toolbox.xilinx.com/docsan/xilinx7/books/docs/lib/lib.pdf
pins: I (in), IB (in), O (out)

## IBUFDS_LDT_25_DT
designator U?
Differential Signaling Input Buffer with LDT_25_DT I/O Interface; FPGAVendor: Xilinx; Published: 15-Sep-2003; Publisher: Altium Limited; HelpURL: http://toolbox.xilinx.com/docsan/xilinx7/books/docs/lib/lib.pdf
pins: I (in), IB (in), O (out)

## IBUFDS_LVDS_25
designator U?
Differential Signaling Input Buffer with Low Voltage Differential Signal - input VCCO = 2.5; FPGAVendor: Xilinx; Published: 15-Sep-2003; Publisher: Altium Limited; HelpURL: http://toolbox.xilinx.com/docsan/xilinx7/books/docs/lib/lib.pdf
pins: I (in), IB (in), O (out)

## IBUFDS_LVDS_25_DCI
designator U?
Differential Signaling Input Buffer with LVDS_25_DCI I/O Interface; FPGAVendor: Xilinx; Published: 15-Sep-2003; Publisher: Altium Limited; HelpURL: http://toolbox.xilinx.com/docsan/xilinx7/books/docs/lib/lib.pdf
pins: I (in), IB (in), O (out)

## IBUFDS_LVDS_25_DT
designator U?
Differential Signaling Input Buffer with LVDS_25_DT I/O Interface; FPGAVendor: Xilinx; Published: 15-Sep-2003; Publisher: Altium Limited; HelpURL: http://toolbox.xilinx.com/docsan/xilinx7/books/docs/lib/lib.pdf
pins: I (in), IB (in), O (out)

## IBUFDS_LVDSEXT_25
designator U?
Differential Signaling Input Buffer with Extended Low Voltage Differential Signal - input VCCO = 2.5; FPGAVendor: Xilinx; Published: 15-Sep-2003; Publisher: Altium Limited; HelpURL: http://toolbox.xilinx.com/docsan/xilinx7/books/docs/lib/lib.pdf
pins: I (in), IB (in), O (out)

## IBUFDS_LVDSEXT_25_DCI
designator U?
Differential Signaling Input Buffer with LVDSEXT_25_DCI I/O Interface; FPGAVendor: Xilinx; Published: 15-Sep-2003; Publisher: Altium Limited; HelpURL: http://toolbox.xilinx.com/docsan/xilinx7/books/docs/lib/lib.pdf
pins: I (in), IB (in), O (out)

## IBUFDS_LVDXEST_25_DT
designator U?
Differential Signaling Input Buffer with LVDXEST_25_DT I/O Interface; FPGAVendor: Xilinx; Published: 15-Sep-2003; Publisher: Altium Limited; HelpURL: http://toolbox.xilinx.com/docsan/xilinx7/books/docs/lib/lib.pdf
pins: I (in), IB (in), O (out)

## IBUFDS_LVPECL_25
designator U?
Differential Signaling Input Buffer witH LVPECL_25 I/O Interface; FPGAVendor: Xilinx; Published: 15-Sep-2003; Publisher: Altium Limited; HelpURL: http://toolbox.xilinx.com/docsan/xilinx7/books/docs/lib/lib.pdf
pins: I (in), IB (in), O (out)

## IBUFDS_ULVDS_25
designator U?
Differential Signaling Input Buffer with Ultra Low Voltage Differential Signal - input VCCO = 2.5; FPGAVendor: Xilinx; Published: 15-Sep-2003; Publisher: Altium Limited; HelpURL: http://toolbox.xilinx.com/docsan/xilinx7/books/docs/lib/lib.pdf
pins: I (in), IB (in), O (out)

## IBUFDS_ULVDS_25_DT
designator U?
Differential Signaling Input Buffer with ULVDS_25_DT I/O Interface; FPGAVendor: Xilinx; Published: 15-Sep-2003; Publisher: Altium Limited; HelpURL: http://toolbox.xilinx.com/docsan/xilinx7/books/docs/lib/lib.pdf
pins: I (in), IB (in), O (out)

## IBUFG
designator U?
Dedicated Input Buffer using the LVTTL standard; FPGAVendor: Xilinx; Published: 15-Sep-2003; Publisher: Altium Limited; HelpURL: http://toolbox.xilinx.com/docsan/xilinx7/books/docs/lib/lib.pdf
pins: I (in), O (out)

## IBUFG_GTL
designator U?
Dedicated Input Buffer using the GTL standard; FPGAVendor: Xilinx; Published: 15-Sep-2003; Publisher: Altium Limited; HelpURL: http://toolbox.xilinx.com/docsan/xilinx7/books/docs/lib/lib.pdf
pins: I (in), O (out)

## IBUFG_GTL_DCI
designator U?
Dedicated Input Buffer with Gunning Transceiver Logic, on-chip Digital Controlled Impedance, Input VCCO = 1.2 and VREF = 0.80; FPGAVendor: Xilinx; Published: 15-Sep-2003; Publisher: Altium Limited; HelpURL: http://toolbox.xilinx.com/docsan/xilinx7/books/docs/lib/lib.pdf
pins: I (in), O (out)

## IBUFG_GTLP
designator U?
Dedicated Input Buffer using the GTL Plus standard; FPGAVendor: Xilinx; Published: 15-Sep-2003; Publisher: Altium Limited; HelpURL: http://toolbox.xilinx.com/docsan/xilinx7/books/docs/lib/lib.pdf
pins: I (in), O (out)

## IBUFG_GTLP_DCI
designator U?
Dedicated Input Buffer with Gunning Transceiver Logic Interface Plus, on-chip Digital Controlled Impedance, Input VCCO = 1.5, VREF = 1.00; FPGAVendor: Xilinx; Published: 15-Sep-2003; Publisher: Altium Limited; HelpURL: http://toolbox.xilinx.com/docsan/xilinx7/books/docs/lib/lib.pdf
pins: I (in), O (out)

## IBUFG_HSTL_I
designator U?
Dedicated Input Buffer using the HSTL_I standard; FPGAVendor: Xilinx; Published: 15-Sep-2003; Publisher: Altium Limited; HelpURL: http://toolbox.xilinx.com/docsan/xilinx7/books/docs/lib/lib.pdf
pins: I (in), O (out)

## IBUFG_HSTL_I_18
designator U?
Dedicated Input Buffer using the HSTL_I_18 Standard; FPGAVendor: Xilinx; Published: 15-Sep-2003; Publisher: Altium Limited; HelpURL: http://toolbox.xilinx.com/docsan/xilinx7/books/docs/lib/lib.pdf
pins: I (in), O (out)

## IBUFG_HSTL_I_DCI
designator U?
Dedicated Input Buffer with High Speed Transceiver Logic, on-chip Digital Controlled Impedance, Input VCCO = 1.5 and VREF = 0.75; FPGAVendor: Xilinx; Published: 15-Sep-2003; Publisher: Altium Limited; HelpURL: http://toolbox.xilinx.com/docsan/xilinx7/books/docs/lib/lib.pdf
pins: I (in), O (out)

## IBUFG_HSTL_I_DCI_18
designator U?
Dedicated Input Buffer using the HSTL_I_DCI_18 Standard; FPGAVendor: Xilinx; Published: 15-Sep-2003; Publisher: Altium Limited; HelpURL: http://toolbox.xilinx.com/docsan/xilinx7/books/docs/lib/lib.pdf
pins: I (in), O (out)

## IBUFG_HSTL_II
designator U?
Dedicated Input Buffer with High Speed Transceiver Logic, VREF = 0.75 (no terminate type); FPGAVendor: Xilinx; Published: 15-Sep-2003; Publisher: Altium Limited; HelpURL: http://toolbox.xilinx.com/docsan/xilinx7/books/docs/lib/lib.pdf
pins: I (in), O (out)

## IBUFG_HSTL_II_18
designator U?
Dedicated Input Buffer using the HSTL_II_18 Standard; FPGAVendor: Xilinx; Published: 15-Sep-2003; Publisher: Altium Limited; HelpURL: http://toolbox.xilinx.com/docsan/xilinx7/books/docs/lib/lib.pdf
pins: I (in), O (out)

## IBUFG_HSTL_II_DCI
designator U?
Dedicated Input Buffer with High Speed Transceiver Logic, on-chip Digital Controlled Impedance, Input VCCO = 1.5, VREF = 0.75; FPGAVendor: Xilinx; Published: 15-Sep-2003; Publisher: Altium Limited; HelpURL: http://toolbox.xilinx.com/docsan/xilinx7/books/docs/lib/lib.pdf
pins: I (in), O (out)

## IBUFG_HSTL_II_DCI_18
designator U?
Dedicated Input Buffer using the HSTL_II_DCI_18 Standard; FPGAVendor: Xilinx; Published: 15-Sep-2003; Publisher: Altium Limited; HelpURL: http://toolbox.xilinx.com/docsan/xilinx7/books/docs/lib/lib.pdf
pins: I (in), O (out)

## IBUFG_HSTL_III
designator U?
Dedicated Input Buffer using the HSTL_III standard; FPGAVendor: Xilinx; Published: 15-Sep-2003; Publisher: Altium Limited; HelpURL: http://toolbox.xilinx.com/docsan/xilinx7/books/docs/lib/lib.pdf
pins: I (in), O (out)

## IBUFG_HSTL_III_18
designator U?
Dedicated Input Buffer using the HSTL_III_18 Standard; FPGAVendor: Xilinx; Published: 15-Sep-2003; Publisher: Altium Limited; HelpURL: http://toolbox.xilinx.com/docsan/xilinx7/books/docs/lib/lib.pdf
pins: I (in), O (out)

## IBUFG_HSTL_III_DCI
designator U?
Dedicated Input Buffer with High Speed Transceiver Logic, on-chip Digital Controlled Impedance, Input VCCO = 1.5, VREF = 0.90; FPGAVendor: Xilinx; Published: 15-Sep-2003; Publisher: Altium Limited; HelpURL: http://toolbox.xilinx.com/docsan/xilinx7/books/docs/lib/lib.pdf
pins: I (in), O (out)

## IBUFG_HSTL_III_DCI_18
designator U?
Dedicated Input Buffer using the HSTL_III_DCI_18 Standard; FPGAVendor: Xilinx; Published: 15-Sep-2003; Publisher: Altium Limited; HelpURL: http://toolbox.xilinx.com/docsan/xilinx7/books/docs/lib/lib.pdf
pins: I (in), O (out)

## IBUFG_HSTL_IV
designator U?
Dedicated Input Buffer using the HSTL_IV standard; FPGAVendor: Xilinx; Published: 15-Sep-2003; Publisher: Altium Limited; HelpURL: http://toolbox.xilinx.com/docsan/xilinx7/books/docs/lib/lib.pdf
pins: I (in), O (out)

## IBUFG_HSTL_IV_18
designator U?
Dedicated Input Buffer using the HSTL_IV_18 Standard; FPGAVendor: Xilinx; Published: 15-Sep-2003; Publisher: Altium Limited; HelpURL: http://toolbox.xilinx.com/docsan/xilinx7/books/docs/lib/lib.pdf
pins: I (in), O (out)

## IBUFG_HSTL_IV_DCI
designator U?
Dedicated Input Buffer with High Speed Transceiver Logic, on-chip Digital Controlled Impedance, Input VCCO = 1.5, VREF = 0.90; FPGAVendor: Xilinx; Published: 15-Sep-2003; Publisher: Altium Limited; HelpURL: http://toolbox.xilinx.com/docsan/xilinx7/books/docs/lib/lib.pdf
pins: I (in), O (out)

## IBUFG_HSTL_IV_DCI_18
designator U?
Dedicated Input Buffer using the HSTL_IV_DCI_18 Standard; FPGAVendor: Xilinx; Published: 15-Sep-2003; Publisher: Altium Limited; HelpURL: http://toolbox.xilinx.com/docsan/xilinx7/books/docs/lib/lib.pdf
pins: I (in), O (out)

## IBUFG_LVCMOS15
designator U?
Dedicated Input Buffer using the LVCMOS15 Standard; FPGAVendor: Xilinx; Published: 15-Sep-2003; Publisher: Altium Limited; HelpURL: http://toolbox.xilinx.com/docsan/xilinx7/books/docs/lib/lib.pdf
pins: I (in), O (out)

## IBUFG_LVCMOS18
designator U?
Dedicated Input Buffer with LVCMOS, Input VCCO = 1.8 (no terminate type); FPGAVendor: Xilinx; Published: 15-Sep-2003; Publisher: Altium Limited; HelpURL: http://toolbox.xilinx.com/docsan/xilinx7/books/docs/lib/lib.pdf
pins: I (in), O (out)

## IBUFG_LVCMOS25
designator U?
Dedicated Input Buffer using the LVCMOS25 Standard; FPGAVendor: Xilinx; Published: 15-Sep-2003; Publisher: Altium Limited; HelpURL: http://toolbox.xilinx.com/docsan/xilinx7/books/docs/lib/lib.pdf
pins: I (in), O (out)

## IBUFG_LVCMOS33
designator U?
Dedicated Input Buffer using the LVCMOS33 Standard; FPGAVendor: Xilinx; Published: 15-Sep-2003; Publisher: Altium Limited; HelpURL: http://toolbox.xilinx.com/docsan/xilinx7/books/docs/lib/lib.pdf
pins: I (in), O (out)

## IBUFG_LVDCI_15
designator U?
Dedicated Input Buffer with Low Voltage, on-chip Digital Controlled Impedance; FPGAVendor: Xilinx; Published: 15-Sep-2003; Publisher: Altium Limited; HelpURL: http://toolbox.xilinx.com/docsan/xilinx7/books/docs/lib/lib.pdf
pins: I (in), O (out)

## IBUFG_LVDCI_18
designator U?
Dedicated Input Buffer with Low Voltage, on-chip Digital Controlled Impedance,; FPGAVendor: Xilinx; Published: 15-Sep-2003; Publisher: Altium Limited; HelpURL: http://toolbox.xilinx.com/docsan/xilinx7/books/docs/lib/lib.pdf
pins: I (in), O (out)

## IBUFG_LVDCI_25
designator U?
Dedicated Input Buffer with Low Voltage, on-chip Digital Controlled Impedance,; FPGAVendor: Xilinx; Published: 15-Sep-2003; Publisher: Altium Limited; HelpURL: http://toolbox.xilinx.com/docsan/xilinx7/books/docs/lib/lib.pdf
pins: I (in), O (out)

## IBUFG_LVDCI_33
designator U?
Dedicated Input Buffer with Low Voltage, on-chip Digital Controlled Impedance,; FPGAVendor: Xilinx; Published: 15-Sep-2003; Publisher: Altium Limited; HelpURL: http://toolbox.xilinx.com/docsan/xilinx7/books/docs/lib/lib.pdf
pins: I (in), O (out)

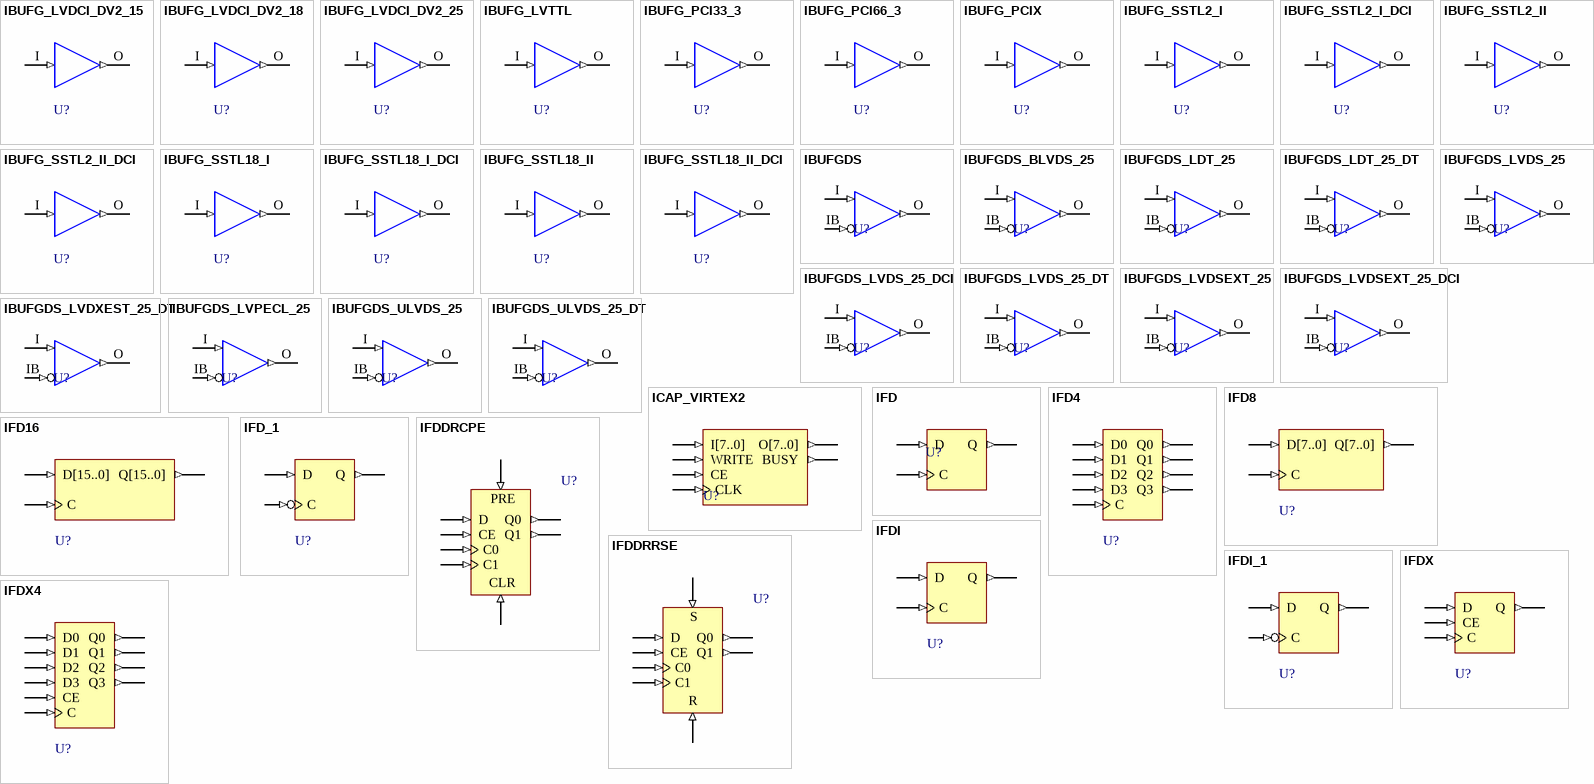
[diagram p16: symbols IBUFG_LVDCI_DV2_15 to IFDX4]

## IBUFG_LVDCI_DV2_15
designator U?
Dedicated Input Buffer with Low Voltage, on-chip Digital Controlled Impedance,; FPGAVendor: Xilinx; Published: 15-Sep-2003; Publisher: Altium Limited; HelpURL: http://toolbox.xilinx.com/docsan/xilinx7/books/docs/lib/lib.pdf
pins: I (in), O (out)

## IBUFG_LVDCI_DV2_18
designator U?
Dedicated Input Buffer with Low Voltage, on-chip Digital Controlled Impedance,; FPGAVendor: Xilinx; Published: 15-Sep-2003; Publisher: Altium Limited; HelpURL: http://toolbox.xilinx.com/docsan/xilinx7/books/docs/lib/lib.pdf
pins: I (in), O (out)

## IBUFG_LVDCI_DV2_25
designator U?
Dedicated Input Buffer with Low Voltage, on-chip Digital Controlled Impedance,; FPGAVendor: Xilinx; Published: 15-Sep-2003; Publisher: Altium Limited; HelpURL: http://toolbox.xilinx.com/docsan/xilinx7/books/docs/lib/lib.pdf
pins: I (in), O (out)

## IBUFG_LVTTL
designator U?
Dedicated Input Buffer with LVTTL, input VCCO = 3.3; FPGAVendor: Xilinx; Published: 15-Sep-2003; Publisher: Altium Limited; HelpURL: http://toolbox.xilinx.com/docsan/xilinx7/books/docs/lib/lib.pdf
pins: I (in), O (out)

## IBUFG_PCI33_3
designator U?
Dedicated Input Buffer using the PCI33_3 standard; FPGAVendor: Xilinx; Published: 15-Sep-2003; Publisher: Altium Limited; HelpURL: http://toolbox.xilinx.com/docsan/xilinx7/books/docs/lib/lib.pdf
pins: I (in), O (out)

## IBUFG_PCI66_3
designator U?
Dedicated Input Buffer using the PCI66_3 standard; FPGAVendor: Xilinx; Published: 15-Sep-2003; Publisher: Altium Limited; HelpURL: http://toolbox.xilinx.com/docsan/xilinx7/books/docs/lib/lib.pdf
pins: I (in), O (out)

## IBUFG_PCIX
designator U?
Dedicated Input Buffer with Peripheral component Interface, Input VCCO = 3.3; FPGAVendor: Xilinx; Published: 15-Sep-2003; Publisher: Altium Limited; HelpURL: http://toolbox.xilinx.com/docsan/xilinx7/books/docs/lib/lib.pdf
pins: I (in), O (out)

## IBUFG_SSTL2_I
designator U?
Dedicated Input Buffer using the SSTL2_I standard; FPGAVendor: Xilinx; Published: 15-Sep-2003; Publisher: Altium Limited; HelpURL: http://toolbox.xilinx.com/docsan/xilinx7/books/docs/lib/lib.pdf
pins: I (in), O (out)

## IBUFG_SSTL2_I_DCI
designator U?
Dedicated Input Buffer with Stub-series terminated logic interface for SDRAM, on-chip Digital Controlled Impedance, Output VCCO = 2.5, Input VCCO = 2.5, VREF = 1.25; FPGAVendor: Xilinx; Published: 15-Sep-2003; Publisher: Altium Limited; HelpURL: http://toolbox.xilinx.com/docsan/xilinx7/books/docs/lib/lib.pdf
pins: I (in), O (out)

## IBUFG_SSTL2_II
designator U?
Dedicated Input Buffer using the SSTL2_II standard; FPGAVendor: Xilinx; Published: 15-Sep-2003; Publisher: Altium Limited; HelpURL: http://toolbox.xilinx.com/docsan/xilinx7/books/docs/lib/lib.pdf
pins: I (in), O (out)

## IBUFG_SSTL2_II_DCI
designator U?
Dedicated Input Buffer with Stub-series terminated logic interface for SDRAM with on-interface for SDRAM, on-chip Digital Controlled Impedance, Output VCCO = 2.5, Input VCCO = 2.5, VREF = 1.25; FPGAVendor: Xilinx; Published: 15-Sep-2003; Publisher: Altium Limited; HelpURL: http://toolbox.xilinx.com/docsan/xilinx7/books/docs/lib/lib.pdf
pins: I (in), O (out)

## IBUFG_SSTL18_I
designator U?
Dedicated Input Buffer with SSTL18_I I/O Interface; FPGAVendor: Xilinx; Published: 15-Sep-2003; Publisher: Altium Limited; HelpURL: http://toolbox.xilinx.com/docsan/xilinx7/books/docs/lib/lib.pdf
pins: I (in), O (out)

## IBUFG_SSTL18_I_DCI
designator U?
Dedicated Input Buffer with SSTL18_I_DCI I/O Interface; FPGAVendor: Xilinx; Published: 15-Sep-2003; Publisher: Altium Limited; HelpURL: http://toolbox.xilinx.com/docsan/xilinx7/books/docs/lib/lib.pdf
pins: I (in), O (out)

## IBUFG_SSTL18_II
designator U?
Dedicated Input Buffer with SSTL18_II I/O Interface; FPGAVendor: Xilinx; Published: 15-Sep-2003; Publisher: Altium Limited; HelpURL: http://toolbox.xilinx.com/docsan/xilinx7/books/docs/lib/lib.pdf
pins: I (in), O (out)

## IBUFG_SSTL18_II_DCI
designator U?
Dedicated Input Buffer with SSTL18_II_DCI I/O Interface; FPGAVendor: Xilinx; Published: 15-Sep-2003; Publisher: Altium Limited; HelpURL: http://toolbox.xilinx.com/docsan/xilinx7/books/docs/lib/lib.pdf
pins: I (in), O (out)

## IBUFGDS
designator U?
Dedicated Differential Signaling Input Buffer with Selectable I/O Interface; FPGAVendor: Xilinx; Published: 15-Sep-2003; Publisher: Altium Limited; HelpURL: http://toolbox.xilinx.com/docsan/xilinx7/books/docs/lib/lib.pdf
pins: I (in), IB (in), O (out)

## IBUFGDS_BLVDS_25
designator U?
Differential Signaling Input Buffer; FPGAVendor: Xilinx; Published: 15-Sep-2003; Publisher: Altium Limited; HelpURL: http://toolbox.xilinx.com/docsan/xilinx7/books/docs/lib/lib.pdf
pins: I (in), IB (in), O (out)

## IBUFGDS_LDT_25
designator U?
Differential Signaling Input Buffer with Lightning Data Transport; FPGAVendor: Xilinx; Published: 15-Sep-2003; Publisher: Altium Limited; HelpURL: http://toolbox.xilinx.com/docsan/xilinx7/books/docs/lib/lib.pdf
pins: I (in), IB (in), O (out)

## IBUFGDS_LDT_25_DT
designator U?
Dedicated Differential Signaling Input Buffer with LDT_25_DT I/O Interface; FPGAVendor: Xilinx; Published: 15-Sep-2003; Publisher: Altium Limited; HelpURL: http://toolbox.xilinx.com/docsan/xilinx7/books/docs/lib/lib.pdf
pins: I (in), IB (in), O (out)

## IBUFGDS_LVDS_25
designator U?
Differential Signaling Input Buffer with Low Voltage Differential Signal; FPGAVendor: Xilinx; Published: 15-Sep-2003; Publisher: Altium Limited; HelpURL: http://toolbox.xilinx.com/docsan/xilinx7/books/docs/lib/lib.pdf
pins: I (in), IB (in), O (out)

## IBUFGDS_LVDS_25_DCI
designator U?
Dedicated Differential Signaling Input Buffer with IBUFGDS_LVDS_25_DCI I/O Interface; FPGAVendor: Xilinx; Published: 15-Sep-2003; Publisher: Altium Limited; HelpURL: http://toolbox.xilinx.com/docsan/xilinx7/books/docs/lib/lib.pdf
pins: I (in), IB (in), O (out)

## IBUFGDS_LVDS_25_DT
designator U?
Dedicated Differential Signaling Input Buffer with IBUFGDS_LVDS_25_DT I/O Interface; FPGAVendor: Xilinx; Published: 15-Sep-2003; Publisher: Altium Limited; HelpURL: http://toolbox.xilinx.com/docsan/xilinx7/books/docs/lib/lib.pdf
pins: I (in), IB (in), O (out)

## IBUFGDS_LVDSEXT_25
designator U?
Differential Signaling Input Buffer with Extended Low Voltage Differential Signal; FPGAVendor: Xilinx; Published: 15-Sep-2003; Publisher: Altium Limited; HelpURL: http://toolbox.xilinx.com/docsan/xilinx7/books/docs/lib/lib.pdf
pins: I (in), IB (in), O (out)

## IBUFGDS_LVDSEXT_25_DCI
designator U?
Dedicated Differential Signaling Input Buffer with IBUFGDS_LVDSEXT_25_DCI I/O Interface; FPGAVendor: Xilinx; Published: 15-Sep-2003; Publisher: Altium Limited; HelpURL: http://toolbox.xilinx.com/docsan/xilinx7/books/docs/lib/lib.pdf
pins: I (in), IB (in), O (out)

## IBUFGDS_LVDXEST_25_DT
designator U?
Dedicated Differential Signaling Input Buffer with IBUFGDS_LVDXEST_25_DT I/O Interface; FPGAVendor: Xilinx; Published: 15-Sep-2003; Publisher: Altium Limited; HelpURL: http://toolbox.xilinx.com/docsan/xilinx7/books/docs/lib/lib.pdf
pins: I (in), IB (in), O (out)

## IBUFGDS_LVPECL_25
designator U?
Dedicated Differential Signaling Input Buffer with IBUFGDS_LVPECL_25 I/O Interface; FPGAVendor: Xilinx; Published: 15-Sep-2003; Publisher: Altium Limited; HelpURL: http://toolbox.xilinx.com/docsan/xilinx7/books/docs/lib/lib.pdf
pins: I (in), IB (in), O (out)

## IBUFGDS_ULVDS_25
designator U?
Differential Signaling Input Buffer with Ultra Low Voltage Differential Signal; FPGAVendor: Xilinx; Published: 15-Sep-2003; Publisher: Altium Limited; HelpURL: http://toolbox.xilinx.com/docsan/xilinx7/books/docs/lib/lib.pdf
pins: I (in), IB (in), O (out)

## IBUFGDS_ULVDS_25_DT
designator U?
Dedicated Differential Signaling Input Buffer with IBUFGDS_ULVDS_25_DT I/O Interface; FPGAVendor: Xilinx; Published: 15-Sep-2003; Publisher: Altium Limited; HelpURL: http://toolbox.xilinx.com/docsan/xilinx7/books/docs/lib/lib.pdf
pins: I (in), IB (in), O (out)

## ICAP_VIRTEX2
designator U?
User Interface to Virtex2 Internal Configuration Access Port; FPGAVendor: Xilinx; Published: 15-Sep-2003; Publisher: Altium Limited; HelpURL: http://toolbox.xilinx.com/docsan/xilinx7/books/docs/lib/lib.pdf
pins: BUSY (out), CE (in), CLK (in), I[7..0] (in), O[7..0] (out), WRITE (in)

## IFD
designator U?
Single-Input D Flip-Flop; FPGAVendor: Xilinx; Published: 15-Sep-2003; Publisher: Altium Limited; HelpURL: http://toolbox.xilinx.com/docsan/xilinx7/books/docs/lib/lib.pdf
pins: C (in), D (in), Q (out)

## IFD4
designator U?
Multiple-Input D Flip-Flop; FPGAVendor: Xilinx; Published: 15-Sep-2003; Publisher: Altium Limited; HelpURL: http://toolbox.xilinx.com/docsan/xilinx7/books/docs/lib/lib.pdf
pins: C (in), D0 (in), D1 (in), D2 (in), D3 (in), Q0 (out), Q1 (out), Q2 (out), Q3 (out)

## IFD8
designator U?
Multiple-Input D Flip-Flop; FPGAVendor: Xilinx; Published: 15-Sep-2003; Publisher: Altium Limited; HelpURL: http://toolbox.xilinx.com/docsan/xilinx7/books/docs/lib/lib.pdf
pins: C (in), D[7..0] (in), Q[7..0] (out)

## IFD16
designator U?
Multiple-Input D Flip-Flop; FPGAVendor: Xilinx; Published: 15-Sep-2003; Publisher: Altium Limited; HelpURL: http://toolbox.xilinx.com/docsan/xilinx7/books/docs/lib/lib.pdf
pins: C (in), D[15..0] (in), Q[15..0] (out)

## IFD_1
designator U?
Input D Flip-Flop with Inverted Clock; FPGAVendor: Xilinx; Published: 15-Sep-2003; Publisher: Altium Limited; HelpURL: http://toolbox.xilinx.com/docsan/xilinx7/books/docs/lib/lib.pdf
pins: C (in), D (in), Q (out)

## IFDDRCPE
designator U?
Dual Data Rate Input D Flip-Flop with Clock Enable and Asynchronous Preset and Clear; FPGAVendor: Xilinx; Published: 15-Sep-2003; Publisher: Altium Limited; HelpURL: http://toolbox.xilinx.com/docsan/xilinx7/books/docs/lib/lib.pdf
pins: C0 (in), C1 (in), CE (in), CLR (in), D (in), PRE (in), Q0 (out), Q1 (out)

## IFDDRRSE
designator U?
Dual Data Rate Input D Flip-Flop with Synchronous Reset and Set and Clock Enable; FPGAVendor: Xilinx; Published: 15-Sep-2003; Publisher: Altium Limited; HelpURL: http://toolbox.xilinx.com/docsan/xilinx7/books/docs/lib/lib.pdf
pins: C0 (in), C1 (in), CE (in), D (in), Q0 (out), Q1 (out), R (in), S (in)

## IFDI
designator U?
Input D Flip-Flop (Asynchronous Preset); FPGAVendor: Xilinx; Published: 15-Sep-2003; Publisher: Altium Limited; HelpURL: http://toolbox.xilinx.com/docsan/xilinx7/books/docs/lib/lib.pdf
pins: C (in), D (in), Q (out)

## IFDI_1
designator U?
Input D Flip-Flop with Inverted Clock (Asynchronous Preset); FPGAVendor: Xilinx; Published: 15-Sep-2003; Publisher: Altium Limited; HelpURL: http://toolbox.xilinx.com/docsan/xilinx7/books/docs/lib/lib.pdf
pins: C (in), D (in), Q (out)

## IFDX
designator U?
Single-Input D Flip-Flop with Clock Enable; FPGAVendor: Xilinx; Published: 15-Sep-2003; Publisher: Altium Limited; HelpURL: http://toolbox.xilinx.com/docsan/xilinx7/books/docs/lib/lib.pdf
pins: C (in), CE (in), D (in), Q (out)

## IFDX4
designator U?
Multiple-Input D Flip-Flop with Clock Enable; FPGAVendor: Xilinx; Published: 15-Sep-2003; Publisher: Altium Limited; HelpURL: http://toolbox.xilinx.com/docsan/xilinx7/books/docs/lib/lib.pdf
pins: C (in), CE (in), D0 (in), D1 (in), D2 (in), D3 (in), Q0 (out), Q1 (out), Q2 (out), Q3 (out)

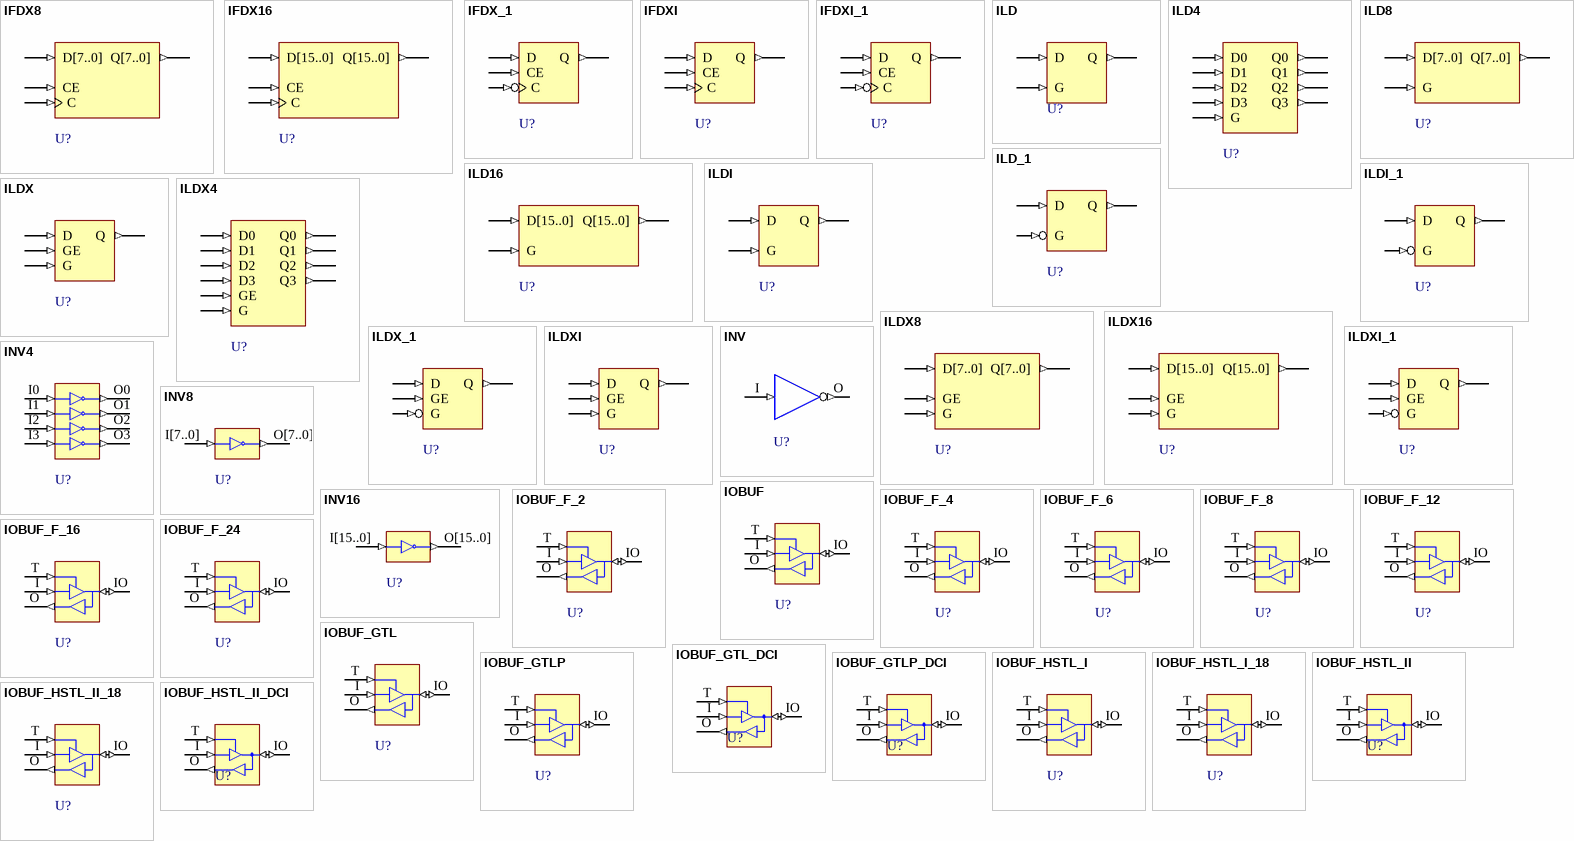
[diagram p17: symbols IFDX8 to IOBUF_HSTL_II_DCI]

## IFDX8
designator U?
Multiple-Input D Flip-Flop with Clock Enable; FPGAVendor: Xilinx; Published: 15-Sep-2003; Publisher: Altium Limited; HelpURL: http://toolbox.xilinx.com/docsan/xilinx7/books/docs/lib/lib.pdf
pins: C (in), CE (in), D[7..0] (in), Q[7..0] (out)

## IFDX16
designator U?
Multiple-Input D Flip-Flop with Clock Enable; FPGAVendor: Xilinx; Published: 15-Sep-2003; Publisher: Altium Limited; HelpURL: http://toolbox.xilinx.com/docsan/xilinx7/books/docs/lib/lib.pdf
pins: C (in), CE (in), D[15..0] (in), Q[15..0] (out)

## IFDX_1
designator U?
Input D Flip-Flop with Inverted Clock and Clock Enable; FPGAVendor: Xilinx; Published: 15-Sep-2003; Publisher: Altium Limited; HelpURL: http://toolbox.xilinx.com/docsan/xilinx7/books/docs/lib/lib.pdf
pins: C (in), CE (in), D (in), Q (out)

## IFDXI
designator U?
Input D Flip-Flop with Clock Enable (Asynchronous Preset); FPGAVendor: Xilinx; Published: 15-Sep-2003; Publisher: Altium Limited; HelpURL: http://toolbox.xilinx.com/docsan/xilinx7/books/docs/lib/lib.pdf
pins: C (in), CE (in), D (in), Q (out)